# EAGLE library part ATSAM*-LQFP144 (library Semiconductors > Embedded Processors & Controllers > Microcontrollers - MCU)
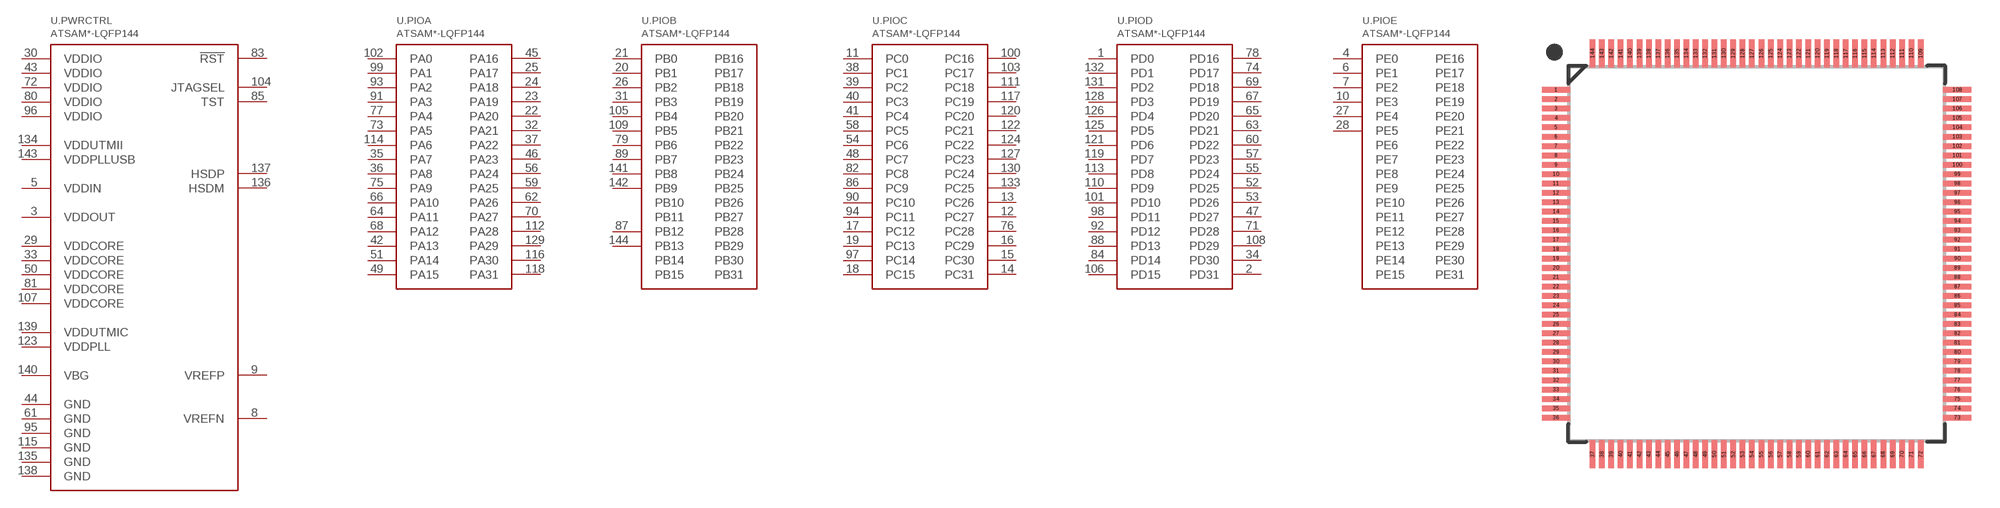
[diagram p24: symbol with the pads of LQFP144; footprint LQFP144]

Designator prefix U; gates .PIOA=ATSAMX7XQXXXXXX_PIOA .PIOB=ATSAMX7XQXXXXXX_PIOB .PIOC=ATSAMX7XQXXXXXX_PIOC .PIOD=ATSAMX7XQXXXXXX_PIOD .PIOE=ATSAMX7XQXXXXXX_PIOE .PWRCTRL=ATSAMX7XQXXXXXX_PWRCTRL2

## ATSAME70Q19-LQFP144, ATSAME70Q20-LQFP144, ATSAME70Q21-LQFP144, ATSAMS70Q19-LQFP144, ATSAMS70Q20-LQFP144, ATSAMS70Q21-LQFP144, ATSAMV70Q19-LQFP144, ATSAMV70Q20-LQFP144, ATSAMV71Q19-LQFP144, ATSAMV71Q20-LQFP144, ATSAMV71Q21-LQFP144  [LQFP144]
1  .PIOD:PD0
2  .PIOD:PD31
3  .PWRCTRL:VDDOUT
4  .PIOE:PE0
5  .PWRCTRL:VDDIN
6  .PIOE:PE1
7  .PIOE:PE2
8  .PWRCTRL:VREFN
9  .PWRCTRL:VREFP
10  .PIOE:PE3
11  .PIOC:PC0
12  .PIOC:PC27
13  .PIOC:PC26
14  .PIOC:PC31
15  .PIOC:PC30
16  .PIOC:PC29
17  .PIOC:PC12
18  .PIOC:PC15
19  .PIOC:PC13
20  .PIOB:PB1
21  .PIOB:PB0
22  .PIOA:PA20
23  .PIOA:PA19
24  .PIOA:PA18
25  .PIOA:PA17
26  .PIOB:PB2
27  .PIOE:PE4
28  .PIOE:PE5
29  .PWRCTRL:VDDCORE
30  .PWRCTRL:VDDIO
31  .PIOB:PB3
32  .PIOA:PA21
33  .PWRCTRL:VDDCORE
34  .PIOD:PD30
35  .PIOA:PA7
36  .PIOA:PA8
37  .PIOA:PA22
38  .PIOC:PC1
39  .PIOC:PC2
40  .PIOC:PC3
41  .PIOC:PC4
42  .PIOA:PA13
43  .PWRCTRL:VDDIO
44  .PWRCTRL:GND
45  .PIOA:PA16
46  .PIOA:PA23
47  .PIOD:PD27
48  .PIOC:PC7
49  .PIOA:PA15
50  .PWRCTRL:VDDCORE
51  .PIOA:PA14
52  .PIOD:PD25
53  .PIOD:PD26
54  .PIOC:PC6
55  .PIOD:PD24
56  .PIOA:PA24
57  .PIOD:PD23
58  .PIOC:PC5
59  .PIOA:PA25
60  .PIOD:PD22
61  .PWRCTRL:GND
62  .PIOA:PA26
63  .PIOD:PD21
64  .PIOA:PA11
65  .PIOD:PD20
66  .PIOA:PA10
67  .PIOD:PD19
68  .PIOA:PA12
69  .PIOD:PD18
70  .PIOA:PA27
71  .PIOD:PD28
72  .PWRCTRL:VDDIO
73  .PIOA:PA5
74  .PIOD:PD17
75  .PIOA:PA9
76  .PIOC:PC28
77  .PIOA:PA4
78  .PIOD:PD16
79  .PIOB:PB6
80  .PWRCTRL:VDDIO
81  .PWRCTRL:VDDCORE
82  .PIOC:PC8
83  .PWRCTRL:!RST
84  .PIOD:PD14
85  .PWRCTRL:TST
86  .PIOC:PC9
87  .PIOB:PB12
88  .PIOD:PD13
89  .PIOB:PB7
90  .PIOC:PC10
91  .PIOA:PA3
92  .PIOD:PD12
93  .PIOA:PA2
94  .PIOC:PC11
95  .PWRCTRL:GND
96  .PWRCTRL:VDDIO
97  .PIOC:PC14
98  .PIOD:PD11
99  .PIOA:PA1
100  .PIOC:PC16
101  .PIOD:PD10
102  .PIOA:PA0
103  .PIOC:PC17
104  .PWRCTRL:JTAGSEL
105  .PIOB:PB4
106  .PIOD:PD15
107  .PWRCTRL:VDDCORE
108  .PIOD:PD29
109  .PIOB:PB5
110  .PIOD:PD9
111  .PIOC:PC18
112  .PIOA:PA28
113  .PIOD:PD8
114  .PIOA:PA6
115  .PWRCTRL:GND
116  .PIOA:PA30
117  .PIOC:PC19
118  .PIOA:PA31
119  .PIOD:PD7
120  .PIOC:PC20
121  .PIOD:PD6
122  .PIOC:PC21
123  .PWRCTRL:VDDPLL
124  .PIOC:PC22
125  .PIOD:PD5
126  .PIOD:PD4
127  .PIOC:PC23
128  .PIOD:PD3
129  .PIOA:PA29
130  .PIOC:PC24
131  .PIOD:PD2
132  .PIOD:PD1
133  .PIOC:PC25
134  .PWRCTRL:VDDUTMII
135  .PWRCTRL:GND
136  .PWRCTRL:HSDM
137  .PWRCTRL:HSDP
138  .PWRCTRL:GND
139  .PWRCTRL:VDDUTMIC
140  .PWRCTRL:VBG
141  .PIOB:PB8
142  .PIOB:PB9
143  .PWRCTRL:VDDPLLUSB
144  .PIOB:PB13

## Footprint LQFP144 (pad centres in mm)
smd 1.5 x 0.3: 1 -10.7,8.75; 2 -10.7,8.25; 3 -10.7,7.75; 4 -10.7,7.25; 5 -10.7,6.75; 6 -10.7,6.25; 7 -10.7,5.75; 8 -10.7,5.25; 9 -10.7,4.75; 10 -10.7,4.25; 11 -10.7,3.75; 12 -10.7,3.25; 13 -10.7,2.75; 14 -10.7,2.25; 15 -10.7,1.75; 16 -10.7,1.25; 17 -10.7,0.75; 18 -10.7,0.25; 19 -10.7,-0.25; 20 -10.7,-0.75; 21 -10.7,-1.25; 22 -10.7,-1.75; 23 -10.7,-2.25; 24 -10.7,-2.75; 25 -10.7,-3.25; 26 -10.7,-3.75; 27 -10.7,-4.25; 28 -10.7,-4.75; 29 -10.7,-5.25; 30 -10.7,-5.75; 31 -10.7,-6.25; 32 -10.7,-6.75; 33 -10.7,-7.25; 34 -10.7,-7.75; 35 -10.7,-8.25; 36 -10.7,-8.75; 73 10.7,-8.75; 74 10.7,-8.25; 75 10.7,-7.75; 76 10.7,-7.25; 77 10.7,-6.75; 78 10.7,-6.25; 79 10.7,-5.75; 80 10.7,-5.25; 81 10.7,-4.75; 82 10.7,-4.25; 83 10.7,-3.75; 84 10.7,-3.25; 85 10.7,-2.75; 86 10.7,-2.25; 87 10.7,-1.75; 88 10.7,-1.25; 89 10.7,-0.75; 90 10.7,-0.25; 91 10.7,0.25; 92 10.7,0.75; 93 10.7,1.25; 94 10.7,1.75; 95 10.7,2.25; 96 10.7,2.75; 97 10.7,3.25; 98 10.7,3.75; 99 10.7,4.25; 100 10.7,4.75; 101 10.7,5.25; 102 10.7,5.75; 103 10.7,6.25; 104 10.7,6.75; 105 10.7,7.25; 106 10.7,7.75; 107 10.7,8.25; 108 10.7,8.75
smd 0.3 x 1.5: 37 -8.75,-10.7; 38 -8.25,-10.7; 39 -7.75,-10.7; 40 -7.25,-10.7; 41 -6.75,-10.7; 42 -6.25,-10.7; 43 -5.75,-10.7; 44 -5.25,-10.7; 45 -4.75,-10.7; 46 -4.25,-10.7; 47 -3.75,-10.7; 48 -3.25,-10.7; 49 -2.75,-10.7; 50 -2.25,-10.7; 51 -1.75,-10.7; 52 -1.25,-10.7; 53 -0.75,-10.7; 54 -0.25,-10.7; 55 0.25,-10.7; 56 0.75,-10.7; 57 1.25,-10.7; 58 1.75,-10.7; 59 2.25,-10.7; 60 2.75,-10.7; 61 3.25,-10.7; 62 3.75,-10.7; 63 4.25,-10.7; 64 4.75,-10.7; 65 5.25,-10.7; 66 5.75,-10.7; 67 6.25,-10.7; 68 6.75,-10.7; 69 7.25,-10.7; 70 7.75,-10.7; 71 8.25,-10.7; 72 8.75,-10.7; 109 8.75,10.7; 110 8.25,10.7; 111 7.75,10.7; 112 7.25,10.7; 113 6.75,10.7; 114 6.25,10.7; 115 5.75,10.7; 116 5.25,10.7; 117 4.75,10.7; 118 4.25,10.7; 119 3.75,10.7; 120 3.25,10.7; 121 2.75,10.7; 122 2.25,10.7; 123 1.75,10.7; 124 1.25,10.7; 125 0.75,10.7; 126 0.25,10.7; 127 -0.25,10.7; 128 -0.75,10.7; 129 -1.25,10.7; 130 -1.75,10.7; 131 -2.25,10.7; 132 -2.75,10.7; 133 -3.25,10.7; 134 -3.75,10.7; 135 -4.25,10.7; 136 -4.75,10.7; 137 -5.25,10.7; 138 -5.75,10.7; 139 -6.25,10.7; 140 -6.75,10.7; 141 -7.25,10.7; 142 -7.75,10.7; 143 -8.25,10.7; 144 -8.75,10.7